# Altium schematic symbol library 定位手表.SchLib: 33 symbols
Pins are listed as number, name and electrical type; pins without a type are passive.

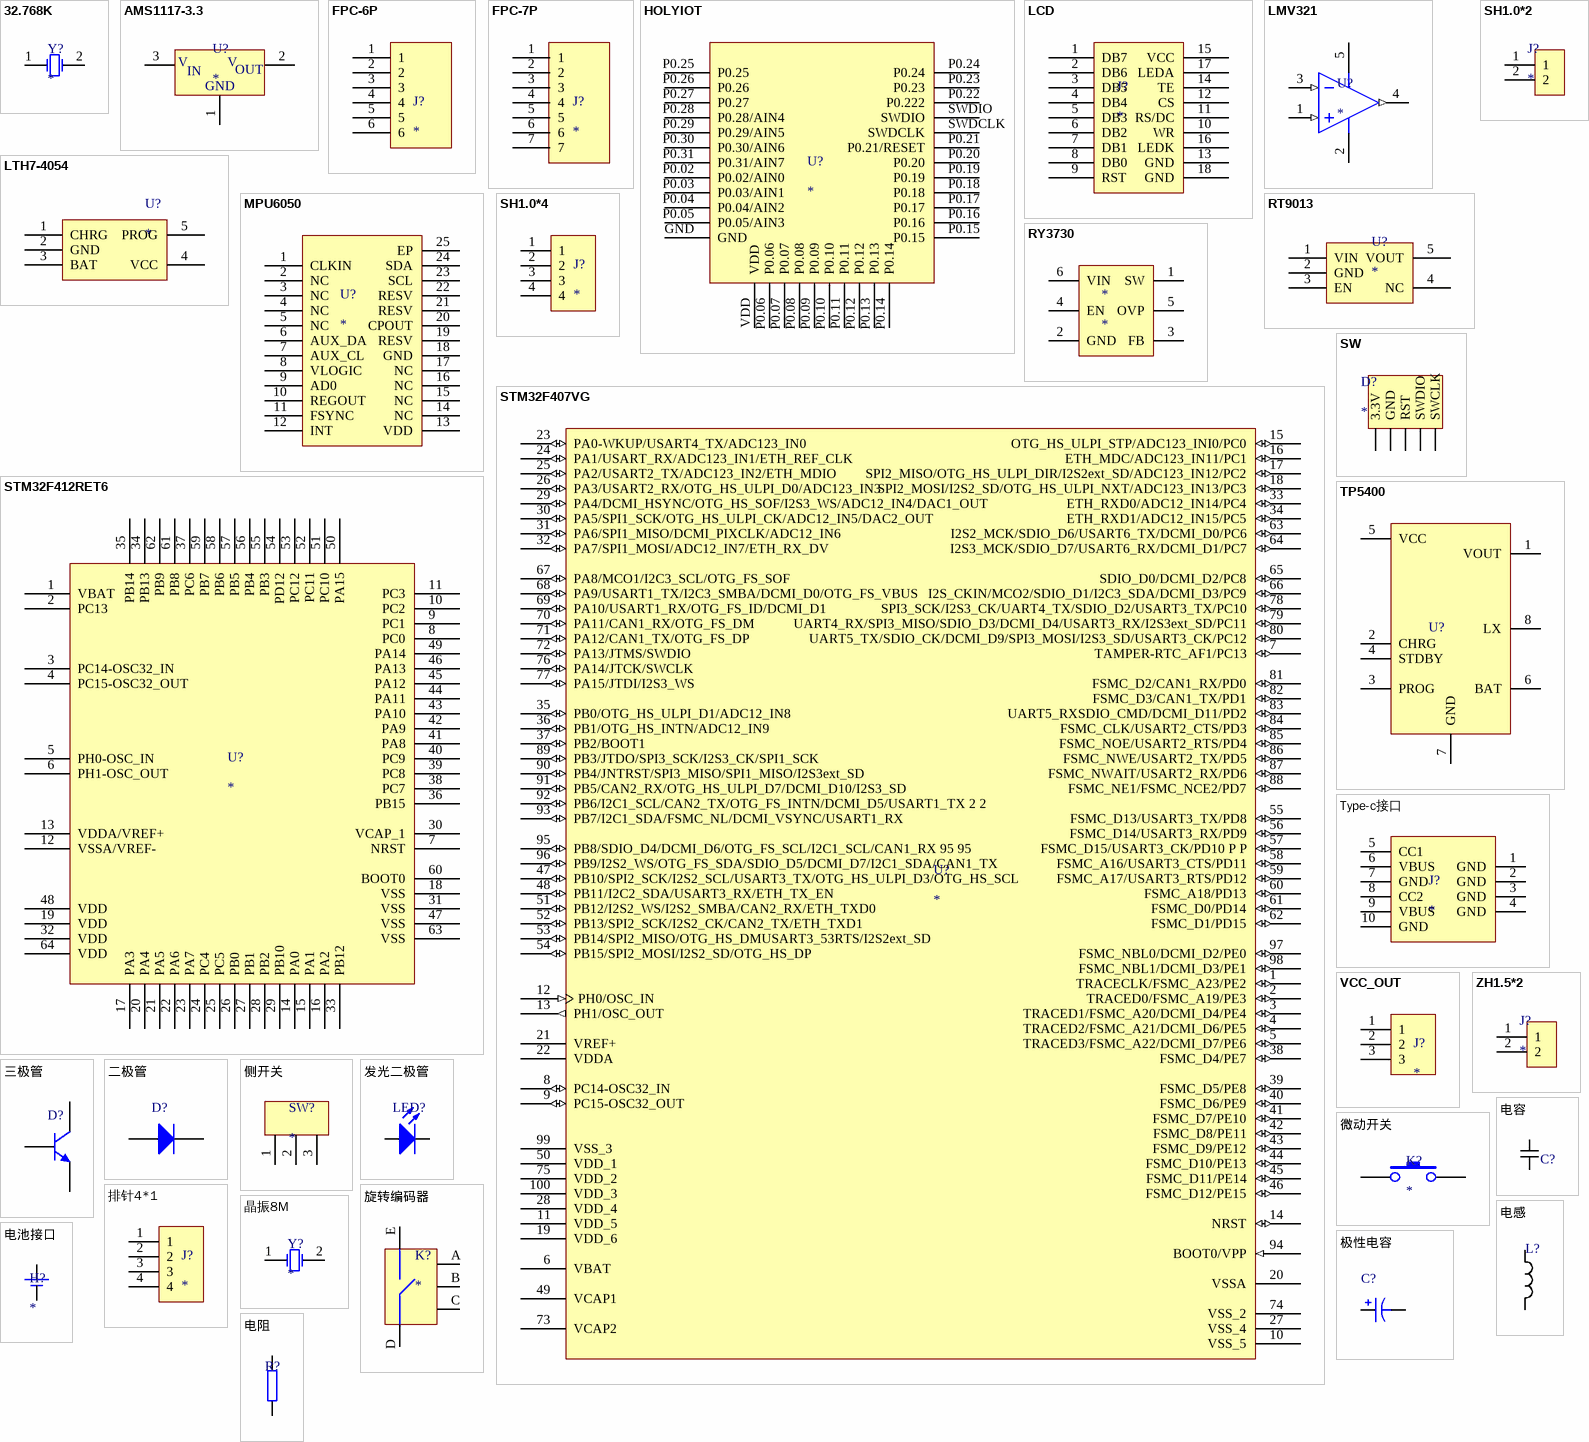
[diagram p0: symbols 32.768K to 电阻]

## 32.768K
designator Y?
footprint ABRA-AB15T-2_V (THD, 2-Leads, Body 5.1x1.5mm, Height 1.5mm)
pins: 1 OSC1, 2 OSC2

## AMS1117-3.3
designator U?
线性稳压芯片
footprint ASM1117-3.3
pins: 1 GND, 2 VOUT, 3 VIN
text: V; IN; OUT

## FPC-6P
designator J?
pins: 1, 2, 3, 4, 5, 6

## FPC-7P
designator J?
pins: 1, 2, 3, 4, 5, 6, 7

## HOLYIOT
designator U?
pins: GND, P0.02 P0.02/AIN0, P0.03 P0.03/AIN1, P0.04 P0.04/AIN2, P0.05 P0.05/AIN3, P0.06, P0.07, P0.08, P0.09, P0.10, P0.11, P0.12, P0.13, P0.14, P0.15, P0.16, P0.17, P0.18, P0.19, P0.20, P0.21 P0.21/RESET, P0.22 P0.222, P0.23, P0.24, P0.25, P0.26, P0.27, P0.28 P0.28/AIN4, P0.29 P0.29/AIN5, P0.30 P0.30/AIN6, P0.31 P0.31/AIN7, SWDCLK, SWDIO, VDD

## LCD
designator J?
pins: 1 DB7, 2 DB6, 3 DB5, 4 DB4, 5 DB3, 6 DB2, 7 DB1, 8 DB0, 9 RST, 10 WR, 11 RS/DC, 12 CS, 13 GND, 14 TE, 15 VCC, 16 LEDK, 17 LEDA, 18 GND

## LMV321
designator U?
pins: 1 (in), 2 (power), 3 (in), 4 (out), 5 (power)

## LTH7-4054
designator U?
pins: 1 CHRG, 2 GND, 3 BAT, 4 VCC, 5 PROG

## MPU6050
designator U?
pins: 1 CLKIN, 2 NC, 3 NC, 4 NC, 5 NC, 6 AUX_DA, 7 AUX_CL, 8 VLOGIC, 9 AD0, 10 REGOUT, 11 FSYNC, 12 INT, 13 VDD, 14 NC, 15 NC, 16 NC, 17 NC, 18 GND, 19 RESV, 20 CPOUT, 21 RESV, 22 RESV, 23 SCL, 24 SDA, 25 EP

## RT9013
designator U?
pins: 1 VIN, 2 GND, 3 EN, 4 NC, 5 VOUT

## RY3730
designator *
LED驱动芯片
pins: 1 SW, 2 GND, 3 FB, 4 EN, 5 OVP, 6 VIN

## SH1.0*2
designator J?
pins: 1, 2

## SH1.0*4
designator J?
pins: 1, 2, 3, 4

## STM32F407VG
designator U?
footprint STM32F407VET61
pins: 1 TRACECLK/FSMC_A23/PE2 (io), 2 TRACED0/FSMC_A19/PE3 (io), 3 TRACED1/FSMC_A20/DCMI_D4/PE4 (io), 4 TRACED2/FSMC_A21/DCMI_D6/PE5 (io), 5 TRACED3/FSMC_A22/DCMI_D7/PE6 (io), 6 VBAT (power), 7 TAMPER-RTC_AF1/PC13 (io), 8 PC14-OSC32_IN (io), 9 PC15-OSC32_OUT (io), 10 VSS_5 (power), 11 VDD_5 (power), 12 PH0/OSC_IN (in), 13 PH1/OSC_OUT (out), 14 NRST (io), 15 OTG_HS_ULPI_STP/ADC123_INI0/PC0 (io), 16 ETH_MDC/ADC123_IN11/PC1 (io), 17 SPI2_MISO/OTG_HS_ULPI_DIR/I2S2ext_SD/ADC123_IN12/PC2 (io), 18 SPI2_MOSI/I2S2_SD/OTG_HS_ULPI_NXT/ADC123_IN13/PC3 (io), 19 VDD_6 (power), 20 VSSA (power), 21 VREF+ (power), 22 VDDA (power), 23 PA0-WKUP/USART4_TX/ADC123_IN0 (io), 24 PA1/USART_RX/ADC123_IN1/ETH_REF_CLK (io), 25 PA2/USART2_TX/ADC123_IN2/ETH_MDIO (io), 26 PA3/USART2_RX/OTG_HS_ULPI_D0/ADC123_IN3 (io), 27 VSS_4 (power), 28 VDD_4 (power), 29 PA4/DCMI_HSYNC/OTG_HS_SOF/I2S3_WS/ADC12_IN4/DAC1_OUT (io), 30 PA5/SPI1_SCK/OTG_HS_ULPI_CK/ADC12_IN5/DAC2_OUT (io), 31 PA6/SPI1_MISO/DCMI_PIXCLK/ADC12_IN6 (io), 32 PA7/SPI1_MOSI/ADC12_IN7/ETH_RX_DV (io), 33 ETH_RXD0/ADC12_IN14/PC4 (io), 34 ETH_RXD1/ADC12_IN15/PC5 (io), 35 PB0/OTG_HS_ULPI_D1/ADC12_IN8 (io), 36 PB1/OTG_HS_INTN/ADC12_IN9 (io), 37 PB2/BOOT1 (io), 38 FSMC_D4/PE7 (io), 39 FSMC_D5/PE8 (io), 40 FSMC_D6/PE9 (io), 41 FSMC_D7/PE10 (io), 42 FSMC_D8/PE11 (io), 43 FSMC_D9/PE12 (io), 44 FSMC_D10/PE13 (io), 45 FSMC_D11/PE14 (io), 46 FSMC_D12/PE15 (io), 47 PB10/SPI2_SCK/I2S2_SCL/USART3_TX/OTG_HS_ULPI_D3/OTG_HS_SCL (io), 48 PB11/I2C2_SDA/USART3_RX/ETH_TX_EN (io), 49 VCAP1 (power), 50 VDD_1 (power), 51 PB12/I2S2_WS/I2S2_SMBA/CAN2_RX/ETH_TXD0 (io), 52 PB13/SPI2_SCK/I2S2_CK/CAN2_TX/ETH_TXD1 (io), 53 PB14/SPI2_MISO/OTG_HS_DMUSART3_53RTS/I2S2ext_SD (io), 54 PB15/SPI2_MOSI/I2S2_SD/OTG_HS_DP (io), 55 FSMC_D13/USART3_TX/PD8 (io), 56 FSMC_D14/USART3_RX/PD9 (io), 57 FSMC_D15/USART3_CK/PD10 P P (io), 58 FSMC_A16/USART3_CTS/PD11 (io), 59 FSMC_A17/USART3_RTS/PD12 (io), 60 FSMC_A18/PD13 (io), 61 FSMC_D0/PD14 (io), 62 FSMC_D1/PD15 (io), 63 I2S2_MCK/SDIO_D6/USART6_TX/DCMI_D0/PC6 (io), 64 I2S3_MCK/SDIO_D7/USART6_RX/DCMI_D1/PC7 (io), 65 SDIO_D0/DCMI_D2/PC8 (io), 66 I2S_CKIN/MCO2/SDIO_D1/I2C3_SDA/DCMI_D3/PC9 (io), 67 PA8/MCO1/I2C3_SCL/OTG_FS_SOF (io), 68 PA9/USART1_TX/I2C3_SMBA/DCMI_D0/OTG_FS_VBUS (io), 69 PA10/USART1_RX/OTG_FS_ID/DCMI_D1 (io), 70 PA11/CAN1_RX/OTG_FS_DM (io), 71 PA12/CAN1_TX/OTG_FS_DP (io), 72 PA13/JTMS/SWDIO (io), 73 VCAP2, 74 VSS_2 (power), 75 VDD_2 (power), 76 PA14/JTCK/SWCLK (io), 77 PA15/JTDI/I2S3_WS (io), 78 SPI3_SCK/I2S3_CK/UART4_TX/SDIO_D2/USART3_TX/PC10 (io), 79 UART4_RX/SPI3_MISO/SDIO_D3/DCMI_D4/USART3_RX/I2S3ext_SD/PC11 (io), 80 UART5_TX/SDIO_CK/DCMI_D9/SPI3_MOSI/I2S3_SD/USART3_CK/PC12 (io), 81 FSMC_D2/CAN1_RX/PD0 (io), 82 FSMC_D3/CAN1_TX/PD1 (io), 83 UART5_RXSDIO_CMD/DCMI_D11/PD2 (io), 84 FSMC_CLK/USART2_CTS/PD3 (io), 85 FSMC_NOE/USART2_RTS/PD4 (io), 86 FSMC_NWE/USART2_TX/PD5 (io), 87 FSMC_NWAIT/USART2_RX/PD6 (io), 88 FSMC_NE1/FSMC_NCE2/PD7 (io), 89 PB3/JTDO/SPI3_SCK/I2S3_CK/SPI1_SCK (io), 90 PB4/JNTRST/SPI3_MISO/SPI1_MISO/I2S3ext_SD (io), 91 PB5/CAN2_RX/OTG_HS_ULPI_D7/DCMI_D10/I2S3_SD (io), 92 PB6/I2C1_SCL/CAN2_TX/OTG_FS_INTN/DCMI_D5/USART1_TX 2 2 (io), 93 PB7/I2C1_SDA/FSMC_NL/DCMI_VSYNC/USART1_RX (io), 94 BOOT0/VPP (in), 95 PB8/SDIO_D4/DCMI_D6/OTG_FS_SCL/I2C1_SCL/CAN1_RX 95 95 (io), 96 PB9/I2S2_WS/OTG_FS_SDA/SDIO_D5/DCMI_D7/I2C1_SDA/CAN1_TX (io), 97 FSMC_NBL0/DCMI_D2/PE0 (io), 98 FSMC_NBL1/DCMI_D3/PE1 (io), 99 VSS_3 (power), 100 VDD_3 (power)

## STM32F412RET6
designator U?
pins: 1 VBAT, 2 PC13, 3 PC14-OSC32_IN, 4 PC15-OSC32_OUT, 5 PH0-OSC_IN, 6 PH1-OSC_OUT, 7 NRST, 8 PC0, 9 PC1, 10 PC2, 11 PC3, 12 VSSA/VREF-, 13 VDDA/VREF+, 14 PA0, 15 PA1, 16 PA2, 17 PA3, 18 VSS, 19 VDD, 20 PA4, 21 PA5, 22 PA6, 23 PA7, 24 PC4, 25 PC5, 26 PB0, 27 PB1, 28 PB2, 29 PB10, 30 VCAP_1, 31 VSS, 32 VDD, 33 PB12, 34 PB13, 35 PB14, 36 PB15, 37 PC6, 38 PC7, 39 PC8, 40 PC9, 41 PA8, 42 PA9, 43 PA10, 44 PA11, 45 PA12, 46 PA13, 47 VSS, 48 VDD, 49 PA14, 50 PA15, 51 PC10, 52 PC11, 53 PC12, 54 PD12, 55 PB3, 56 PB4, 57 PB5, 58 PB6, 59 PB7, 60 BOOT0, 61 PB8, 62 PB9, 63 VSS, 64 VDD

## SW
designator D?
footprint HDR1X5_180_2.54
pins: 1 3.3V (power), 2 GND (power), 3 RST (power), 4 SWDIO (power), 5 SWCLK (power)

## TP5400
designator U?
电源管理芯片
pins: 1 VOUT, 2 CHRG, 3 PROG, 4 STDBY, 5 VCC, 6 BAT, 7 GND, 8 LX

## Type-c接口
designator J?
接口
pins: 1 GND, 2 GND, 3 GND, 4 GND, 5 CC1, 6 VBUS, 7 GND, 8 CC2, 9 VBUS, 10 GND

## VCC_OUT
designator J?
pins: 1, 2, 3

## ZH1.5*2
designator J?
pins: 1, 2

## 三极管
designator D?  (value not drawn)
三极管
pins: 1 B, 2 E, 3 C

## 二极管
designator D?  (value not drawn)
通用二极管
footprint 二极管1N4007MIL:42：360 (适用于内径小于42mil,管身长小于360mil的二极管)
pins: 1 A, 2 K

## 侧开关
designator SW?
侧开关
pins: 1, 2, 3

## 发光二极管
designator LED?  (value not drawn)
发光二极管
footprint 发光二极管MIL:42:125 (适用于内径小于42mil,管脚间距小于125mil的发光二极管)
footprint LED0603
pins: 1, 2

## 微动开关
designator K?
footprint BT -2
pins: 1, 2

## 排针4*1
designator J?
pins: 1, 2, 3, 4

## 旋转编码器
designator K?
旋转编码器
pins: A, B, C, D, E

## 晶振8M
designator Y?
footprint 49SMD
pins: 1 OSC1, 2 OSC2

## 极性电容
designator C?  (value not drawn)
极性直插电容; name: Cap Pol
footprint CAP:POL:42,100
footprint cap:pol:Mil:42:150 (适用于内径小于42mil，管脚间距小于150mil的电解电容)
footprint Cap:pol:mil:42:360 (适用于内径小于42mil，管脚间距小于360mil的电解电容)
footprint cap:polmil:42:240 (适用于内径小于42mil，管脚间距小于240mil的电解电容)
pins: 1, 2

## 电容
designator C?, comment Cap  (value not drawn)
无极性贴片电容
footprint C0805
footprint CAP-0.1
footprint CAP-0.2
pins: 1, 2

## 电感
designator L?
普通电感; Code_IEC: 1005; Published: 8-Jun-2000; LatestRevisionDate: 29-May-2009; LatestRevisionNote: IPC-7351 Footprint Added.; PackageReference: 0402-A; Publisher: Altium Limited; PackageDescription: Chip Inductor; Code_JEITA: 0402
footprint L0805
pins: 1, 2

## 电池接口
designator H?
接电池用的
pins: 1 正极, 2 负极

## 电阻
designator R?  (value not drawn)
电阻
footprint R0.4
footprint R0805
pins: 1, 2